# EAGLE library part AOZ1094 (library mystuff)
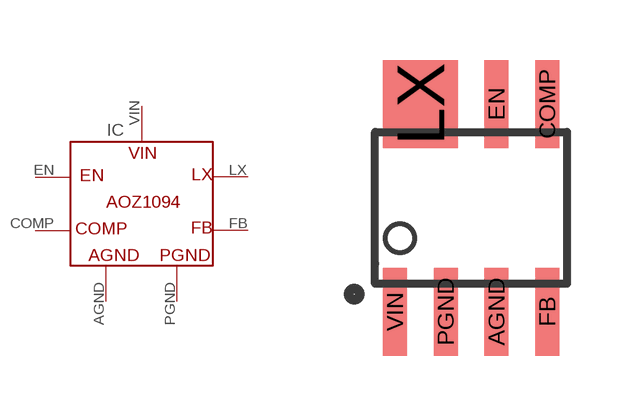
[diagram p1: symbol with the pads of AOZ1094.PAC; footprint AOZ1094.PAC]

Designator prefix IC

## AOZ1094  [AOZ1094.PAC]
AGND  AGND
COMP  COMP
EN  EN
FB  FB
LX  LX
PGND  PGND
VIN  VIN

## Footprint AOZ1094.PAC (pad centres in mm)
smd 0.6 x 2.2: AGND 0.635,-2.6; COMP 1.905,2.6; EN 0.635,2.6; FB 1.905,-2.6; PGND -0.635,-2.6; VIN -1.905,-2.6
smd 1.87 x 2.2: LX -1.27,2.6